# Altium integrated library TSW-110-26-T-S.IntLib: 1 symbol
Pins are listed as number, name and electrical type; pins without a type are passive.

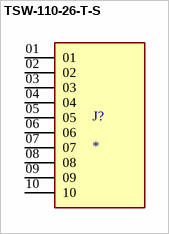
[diagram p0: symbol TSW-110-26-T-S]

## TSW-110-26-T-S
designator J?
MP: TSW-110-26-T-S; Package: None; Price: None; Value: *; Availability: Unavailable
footprint SAMTEC_TSW-110-26-T-S
pins: 01, 02, 03, 04, 05, 06, 07, 08, 09, 10